# EAGLE library part CP2201-GM (library silabs-eth)
SINGLE-CHIP ETHERNET CONTROLLER Integrated IEEE 802.3 MAC and 10 BASE-T PHY
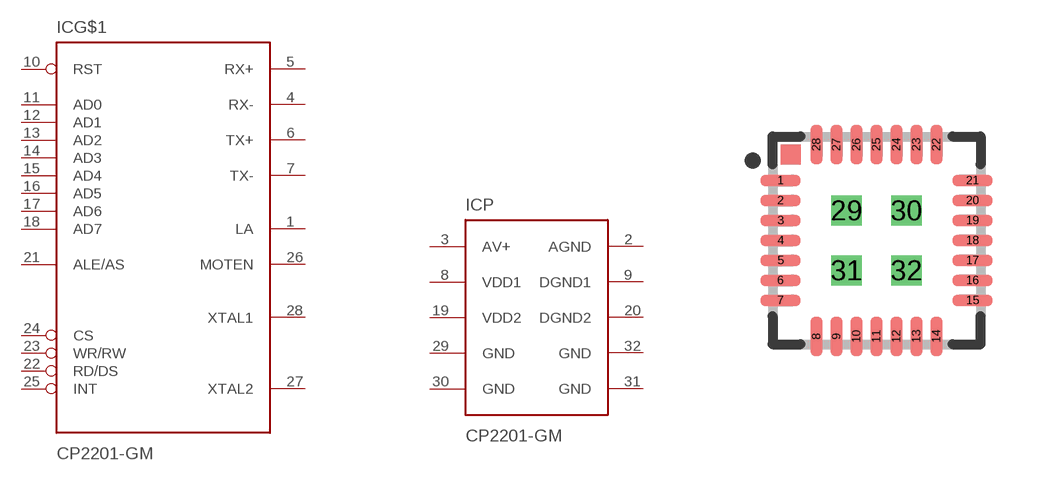
[diagram p1: symbol with the pads of QFN-28; footprint QFN-28]

Designator prefix IC; gates G$1=CP2201 P=CP2201-PWR

## CP2201-GM  [QFN-28]
1  G$1:LA  out
2  P:AGND  pwr
3  P:AV+  pwr
4  G$1:RX-  in
5  G$1:RX+  in
6  G$1:TX+  out
7  G$1:TX-  out
8  P:VDD1  pwr
9  P:DGND1  pwr
10  G$1:RST  in
11  G$1:AD0
12  G$1:AD1
13  G$1:AD2
14  G$1:AD3
15  G$1:AD4
16  G$1:AD5
17  G$1:AD6
18  G$1:AD7
19  P:VDD2  pwr
20  P:DGND2  pwr
21  G$1:ALE/AS  in
22  G$1:RD/DS  in
23  G$1:WR/RW  in
24  G$1:CS  in
25  G$1:INT  out
26  G$1:MOTEN  in
27  G$1:XTAL2  out
28  G$1:XTAL1  in
29  P:GND  pwr
30  P:GND  pwr
31  P:GND  pwr
32  P:GND  pwr

## Footprint QFN-28 (pad centres in mm)
QFN-28 Package IPC7351 - QFN50P500X500X100-32N
smd 1 x 0.3: 1 -2.4,1.5; 2 -2.4,1; 3 -2.4,0.5; 4 -2.4,0; 5 -2.4,-0.5; 6 -2.4,-1; 7 -2.4,-1.5; 15 2.4,-1.5; 16 2.4,-1; 17 2.4,-0.5; 18 2.4,0; 19 2.4,0.5; 20 2.4,1; 21 2.4,1.5
smd 0.3 x 1: 8 -1.5,-2.4; 9 -1,-2.4; 10 -0.5,-2.4; 11 0,-2.4; 12 0.5,-2.4; 13 1,-2.4; 14 1.5,-2.4; 22 1.5,2.4; 23 1,2.4; 24 0.5,2.4; 25 0,2.4; 26 -0.5,2.4; 27 -1,2.4; 28 -1.5,2.4
drill 0.25 pad 0.7 square: 29 -0.75,0.75; 30 0.75,0.75; 31 -0.75,-0.75; 32 0.75,-0.75